# EAGLE library part CON-TANSHI5 (library mylib)
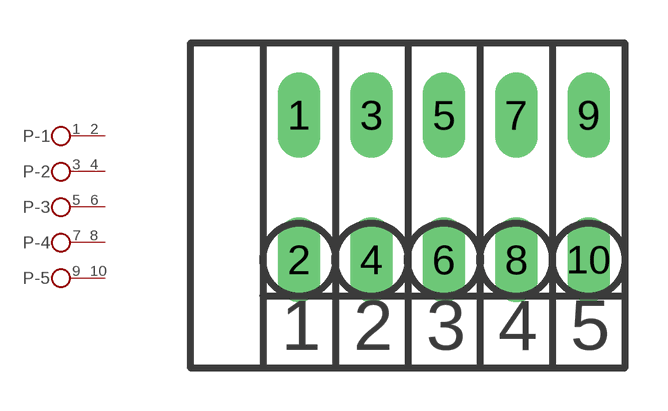
[diagram p15: symbol with the pads of CON-FFKV5; footprint CON-FFKV5]

Designator prefix P; gates -1=CON-KL2 -2=CON-KL2 -3=CON-KL2 -4=CON-KL2 -5=CON-KL2

## CON-TANSHI5  [CON-FFKV5]
1  -1:1  pas
2  -1:2  pas
3  -2:1  pas
4  -2:2  pas
5  -3:1  pas
6  -3:2  pas
7  -4:1  pas
8  -4:2  pas
9  -5:1  pas
10  -5:2  pas

## Footprint CON-FFKV5 (pad centres in mm)
PHOENIX
drill 0.991 long: 1 -1.27,1.27; 2 -1.27,-3.81; 3 1.27,1.27; 4 1.27,-3.81; 5 3.81,1.27; 6 3.81,-3.81; 7 6.35,1.27; 8 6.35,-3.81; 9 8.89,1.27; 10 8.89,-3.81